# Altium footprint library PJQ4403P.PcbLib: 1 footprints
Each footprint in its own frame and in the unit in brackets; x right, y up, seen from the top. Pads: shape width x height; smd on the part's side, far side on the other; paste and mask are expansions set on the pad; w line width, h text height; cw(c..) or ccw(c..) is an arc to the next point about the centre after c.
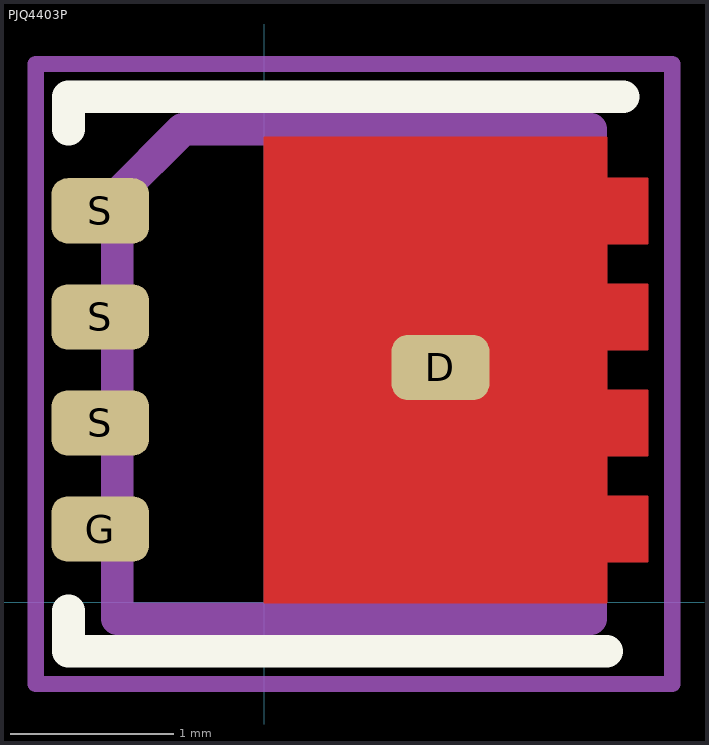
[diagram p0: the footprint, top view; thin cyan lines are the x and y axes]

## PJQ4403P [mm]
pads (5):
  rrect50% 0.6x0.4 smd mask+0: D(1.08,1.44) G(-1.005,0.45) S(-1.005,1.1) S(-1.005,1.75) S(-1.005,2.4)
Top Layer:
  region: 0,0 0,2.85 2.1,2.85 2.1,2.6 2.35,2.6 2.35,2.2 2.1,2.2 2.1,1.95 2.35,1.95 2.35,1.55 2.1,1.55 2.1,1.3 2.35,1.3 2.35,0.9 2.1,0.9 2.1,0.65 2.35,0.65 2.35,0.25 2.1,0.25 2.1,0
  lines w0.01: 0,0 0,0.05 0,2.85 2.1,2.85 2.1,2.6 2.35,2.6 2.35,2.2 2.1,2.2 2.1,1.95 2.35,1.95 2.35,1.55 2.1,1.55 2.1,1.3 2.35,1.3 2.35,0.9 2.1,0.9 2.1,0.65 2.35,0.65 2.35,0.25 2.1,0.25 2.1,0 0,0
Top Overlay:
  lines w0.2: -1.2,-0.05 -1.2,-0.3 2.1,-0.3 ; -1.2,2.9 -1.2,3.1 2.2,3.1
Top Paste:
  region: 0,0 0,2.85 2.1,2.85 2.1,2.6 2.35,2.6 2.35,2.2 2.1,2.2 2.1,1.95 2.35,1.95 2.35,1.55 2.1,1.55 2.1,1.3 2.35,1.3 2.35,0.9 2.1,0.9 2.1,0.65 2.35,0.65 2.35,0.25 2.1,0.25 2.1,0
Top Solder:
  region: 0,0 0,2.85 2.1,2.85 2.1,2.6 2.35,2.6 2.35,2.2 2.1,2.2 2.1,1.95 2.35,1.95 2.35,1.55 2.1,1.55 2.1,1.3 2.35,1.3 2.35,0.9 2.1,0.9 2.1,0.65 2.35,0.65 2.35,0.25 2.1,0.25 2.1,0
Mechanical 3:
  lines w0.2: -0.9,1.1 -0.9,2.5 -0.5,2.9 2,2.9 2,-0.1 -0.9,-0.1 -0.9,1.2
Mechanical 7:
  lines w0.1: -1.4,-0.5 -1.4,3.3 2.5,3.3 2.5,-0.5 -0.5,-0.5 -1.4,-0.5
Mechanical 9:
  text "'.Designator'" at -6.454,1.156 h1.02
3D body "PowerDI3333-8.stp": height 0.82, standoff 0.01, extent -1.15,-0.225 2.15,3.075
3D body: height 0.8, standoff -0.81, extent -1.4,-0.5 2.5,3.3